# EAGLE library part IS66WVE4M16EBLL-70BLI (library IS66WVE4M16EBLL-70BLI)
SRAM 64Mb,Pseudo SRAM,Asynch/Page, 4M x 16,70ns,VDD 2.7V~3.6V, VDDQ 2.7V~3.6V,48 Ball BGA (6x8 mm), RoHS Source: Datasheet <https://www.issi.com/WW/pdf/66-67WVE4M16EALL-BLL-CLL.pdf>
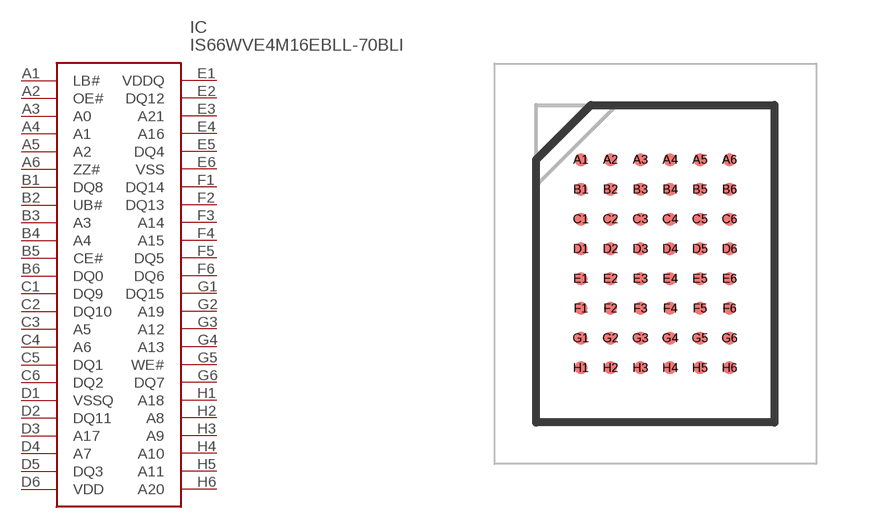
[diagram p0: symbol with the pads of BGA48C75P6X8_600X800X120; footprint BGA48C75P6X8_600X800X120]

Designator prefix IC

## IS66WVE4M16EBLL-70BLI (Description: SRAM 64Mb,Pseudo SRAM,Asynch/Page, 4M x 16,70ns,VDD 2.7V~3.6V, VDDQ 2.7V~3.6V,48 Ball BGA (6x8 mm), RoHS; Height: 1.2mm; Manufacturer_Name: INTEGRATED SILICON SOLUTION / ISSI; Manufacturer_Part_Number: IS66WVE4M16EBLL-70BLI)  [BGA48C75P6X8_600X800X120]
A1  LB#
A2  OE#
A3  A0
A4  A1
A5  A2
A6  ZZ#
B1  DQ8
B2  UB#
B3  A3
B4  A4
B5  CE#
B6  DQ0
C1  DQ9
C2  DQ10
C3  A5
C4  A6
C5  DQ1
C6  DQ2
D1  VSSQ
D2  DQ11
D3  A17
D4  A7
D5  DQ3
D6  VDD
E1  VDDQ
E2  DQ12
E3  A21
E4  A16
E5  DQ4
E6  VSS
F1  DQ14
F2  DQ13
F3  A14
F4  A15
F5  DQ5
F6  DQ6
G1  DQ15
G2  A19
G3  A12
G4  A13
G5  WE#
G6  DQ7
H1  A18
H2  A8
H3  A9
H4  A10
H5  A11
H6  A20

## Footprint BGA48C75P6X8_600X800X120 (pad centres in mm)
48-ball TFBGA
smd 0.33 x 0.33: A1 -1.875,2.625; A2 -1.125,2.625; A3 -0.375,2.625; A4 0.375,2.625; A5 1.125,2.625; A6 1.875,2.625; B1 -1.875,1.875; B2 -1.125,1.875; B3 -0.375,1.875; B4 0.375,1.875; B5 1.125,1.875; B6 1.875,1.875; C1 -1.875,1.125; C2 -1.125,1.125; C3 -0.375,1.125; C4 0.375,1.125; C5 1.125,1.125; C6 1.875,1.125; D1 -1.875,0.375; D2 -1.125,0.375; D3 -0.375,0.375; D4 0.375,0.375; D5 1.125,0.375; D6 1.875,0.375; E1 -1.875,-0.375; E2 -1.125,-0.375; E3 -0.375,-0.375; E4 0.375,-0.375; E5 1.125,-0.375; E6 1.875,-0.375; F1 -1.875,-1.125; F2 -1.125,-1.125; F3 -0.375,-1.125; F4 0.375,-1.125; F5 1.125,-1.125; F6 1.875,-1.125; G1 -1.875,-1.875; G2 -1.125,-1.875; G3 -0.375,-1.875; G4 0.375,-1.875; G5 1.125,-1.875; G6 1.875,-1.875; H1 -1.875,-2.625; H2 -1.125,-2.625; H3 -0.375,-2.625; H4 0.375,-2.625; H5 1.125,-2.625; H6 1.875,-2.625